# Altium schematic symbol library RES,470k,5%,0.25W,Axial,Thru.Schlib: 1 symbol
Pins are listed as number, name and electrical type; pins without a type are passive.

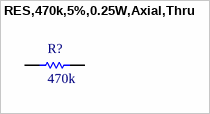
[diagram p0: symbol RES,470k,5%,0.25W,Axial,Thru]

## RES,470k,5%,0.25W,Axial,Thru
designator R?, comment 470k
470 kOhms ±5% 0.25W, 1/4W Through Hole Resistor Axial  Carbon Film
pins: 1, 2